# Altium footprint library Connectors.PcbLib: 73 footprints (part 5 of 5)
Each footprint in its own frame and in the unit in brackets; x right, y up, seen from the top. Pads: shape width x height; smd on the part's side, far side on the other; paste and mask are expansions set on the pad; w line width, h text height; cw(c..) or ccw(c..) is an arc to the next point about the centre after c.
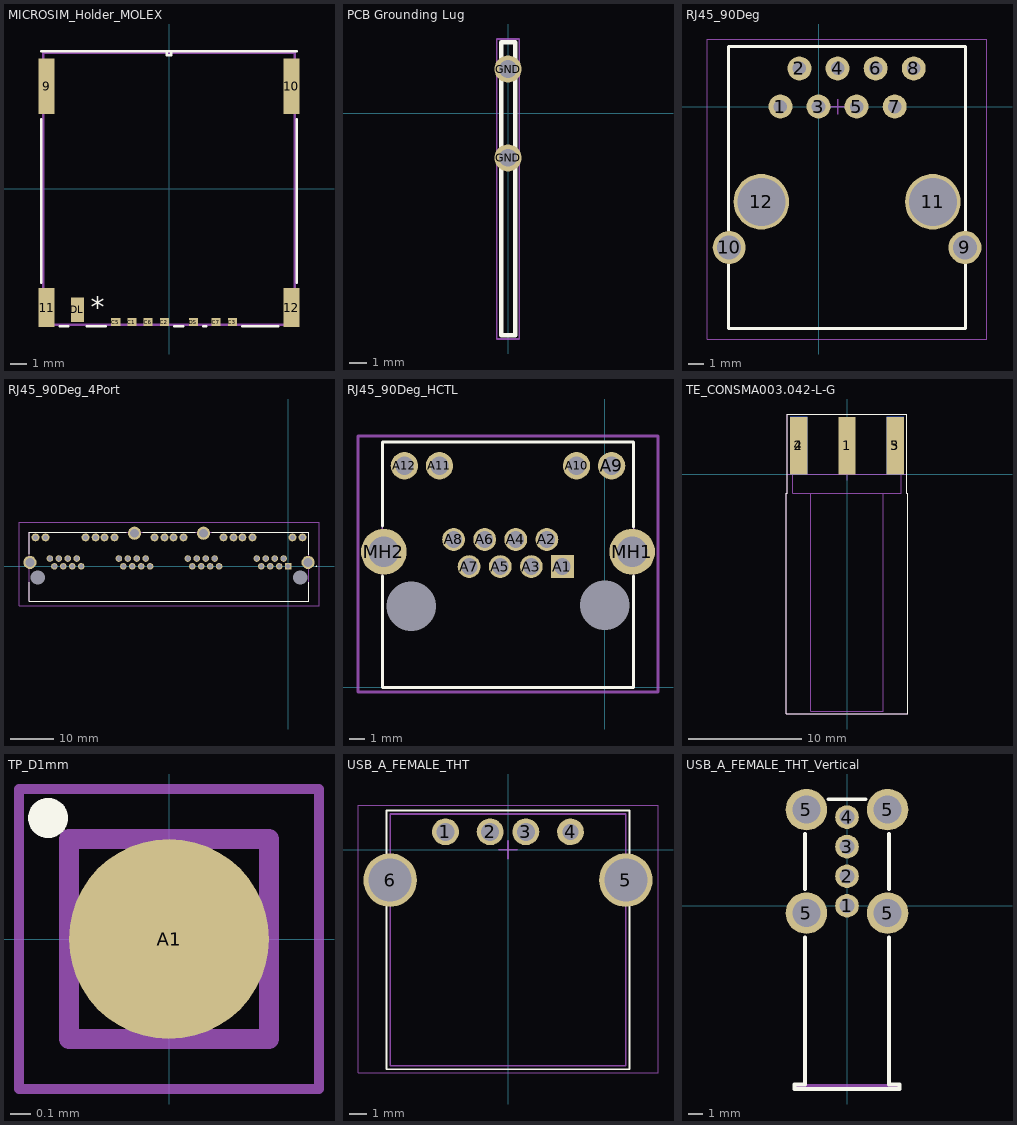
[diagram p4: the footprints below, top view; thin cyan lines are the x and y axes]

## MICROSIM_Holder_MOLEX [mil]
pads (12):
  rect 39x134 smd: 9(-297.24,248.79) 10(297.24,248.79)
  rect 39x94 smd: 11(-297.24,-288.61) 12(297.24,-288.61)
  rect 22x20 smd: C1(-89.96,-324.04) C2(-11.22,-324.04) C3(153.74,-324.04) C5(-129.33,-324.04) C6(-50.59,-324.04) C7(114.37,-324.04) DS(59.06,-324.04)
  rect 32x59 smd: DL(-222.44,-293.73)
Top Overlay:
  lines w6: -310,-229 -310,169 ; -310,334 -5,334 ; -265,-334 -245,-334 ; -200,-334 -153,-334 ; 13,-334 35,-334 ; 83,-334 90,-334 ; 178,-334 265,-334 ; 310,-229 310,169 ; 310,334 5,334 ; -5,334 5,334 ; -5,334 -5,324 5,324 5,334
  text "*" at -190,-312.5 h50
Mechanical 13:
  lines w6: -305,-330 305,-330 305,330 -305,330 -305,-330
  text "*" at -190,-312.5 h50
3D body: height 39.37, standoff 0, extent -300,-325 300,325

## PCB Grounding Lug [mm]
pads (2):
  round 1.524 hole 1: GND(0,-2.5) GND(0,2.5)
Top Overlay:
  lines w0.254: -0.381,-12.5 0.419,-12.5 0.419,4 -0.381,4 -0.381,-12.5
Mechanical 15:
  lines w0.1: -0.635,-12.7 0.635,-12.7 0.635,3.937 0.635,4.191 0.381,4.191 -0.635,4.191 -0.635,-12.7
3D body: height 3.5, standoff 0, extent -0.254,-2.754 0.254,-2.246
3D body: height 3.5, standoff 0, extent -0.254,2.246 0.254,2.754
3D body: height 9, standoff 2.7, extent -0.381,-12.446 0.381,-3.683
3D body: height 9, standoff 0, extent -0.381,-3.683 0.381,3.937

## RJ45_90Deg [mm]
pads (12):
  round 1.6 hole 0.9: 1(-2.54,0) 2(-1.27,2.54) 3(0,0) 4(1.27,2.54) 5(2.54,0) 6(3.81,2.54) 7(5.08,0) 8(6.35,2.54)
  round 2.2 hole 1.6: 9(9.76,-9.4) 10(-5.95,-9.4)
  round 3.7 hole 3.2: 11(7.62,-6.35) 12(-3.81,-6.35)
Top Overlay:
  lines w0.2: -6,-14.8 -6,4 9.8,4 9.8,-14.8 -6,-14.8
Mechanical 13:
  lines w0.1: -6,-14.8 -6,4 9.8,4 9.8,-14.8 -6,-14.8
Mechanical 15:
  lines w0.05: -7.4,-15.5 -7.4,4.5 11.2,4.5 11.2,-15.5 -7.4,-15.5
  lines w0.1: 0.77,0 1.77,0 ; 1.27,-0.5 1.27,0.5
3D body: height 13.3, standoff 0.3, extent -6,-14.8 9.8,4

## RJ45_90Deg_4Port [mm]
pads (54):
  rect 1.5x1.5 hole 1.1: A1(0,0)
  round 1.5 hole 1.1: A2(-1.02,1.78) A3(-2.04,0) A4(-3.06,1.78) A5(-4.08,0) A6(-5.1,1.78) A7(-6.12,0) A8(-7.14,1.78) B1(-15.75,0) B2(-16.77,1.78) B3(-17.79,0) B4(-18.81,1.78) B5(-19.83,0) B6(-20.85,1.78) B7(-21.87,0) B8(-22.89,1.78) C1(-31.5,0) C2(-32.52,1.78) C3(-33.54,0) C4(-34.56,1.78) C5(-35.58,0) C6(-36.6,1.78) C7(-37.62,0) C8(-38.64,1.78) D1(-47.25,0) D2(-48.27,1.78) D3(-49.29,0) D4(-50.31,1.78) D5(-51.33,0) D6(-52.35,1.78) D7(-53.37,0) D8(-54.39,1.78)
  round 1.8 hole 1.2: A9(3.29,6.6) A10(1,6.6) A11(-8.14,6.6) A12(-10.43,6.6) B9(-12.46,6.6) B10(-14.75,6.6) B11(-23.89,6.6) B12(-26.18,6.6) C9(-28.21,6.6) C10(-30.5,6.6) C11(-39.64,6.6) C12(-41.93,6.6) D9(-43.96,6.6) D10(-46.25,6.6) D11(-55.39,6.6) D12(-57.68,6.6)
  round 3 hole 2: MH1(4.555,0.89) MH2(-58.945,0.89) MH3(-19.32,7.56) MH4(-35.07,7.56)
  round 1.625 hole 3.25 unplated: ""(-57.17,-2.54) ""(2.78,-2.54)
Top Overlay:
  lines w0.1: 6.4,0 cw(c6.45,0) 6.5,0 cw(c6.45,0) 6.4,0
  lines w0.2: -59.07,-3.6 -59.07,-8 4.68,-8 4.68,-3.6 ; -59.07,2.8 -59.07,7.75 -37,7.75 ; -33.2,7.75 -21.2,7.75 ; -17.4,7.75 4.68,7.75 4.68,2.6
Mechanical 13:
  lines w0.1: -59.07,-8 -59.07,7.75 4.68,7.75 4.68,-8 -59.07,-8
Mechanical 15:
  lines w0.1: -61.445,-9 -61.445,10.06 7.055,10.06 7.055,-9 -61.445,-9
3D body "HC-RJ45-5JA-4-2.stp": height 13.55, standoff -5, extent -59.838,-8 5.455,8.458

## RJ45_90Deg_HCTL [mm]
pads (16):
  rect 1.5x1.5 hole 1.1: A1(-2.78,7.93)
  round 1.5 hole 1.1: A2(-3.8,9.71) A3(-4.82,7.93) A4(-5.84,9.71) A5(-6.86,7.93) A6(-7.88,9.71) A7(-8.9,7.93) A8(-9.92,9.71)
  round 1.8 hole 1.2: A9(0.45,14.55) A10(-1.85,14.55) A11(-10.85,14.55) A12(-13.15,14.55)
  round 3 hole 2: MH1(1.8,8.9) MH2(-14.5,8.9)
  round 1.625 hole 3.25 unplated: ""(-12.7,5.34) ""(0,5.4)
Top Overlay:
  lines w0.2: -14.6,7.3 -14.6,0 1.9,0 1.9,7.3 ; -14.6,10.6 -14.6,16.1 1.9,16.1 1.9,10.54
Mechanical 13:
  lines w0.1: -14.6,0 1.9,0 1.9,16.1 -14.6,16.1 -14.6,0
Mechanical 15:
  lines w0.2: -16.2,-0.3 -16.2,16.5 3.5,16.5 3.5,-0.3 -16.2,-0.3
3D body: height 13.5, standoff 0.01, extent -14.7,0 1.9,16.1

## TE_CONSMA003.042-L-G [mm]
pads (5):
  rect 1.52x5.08 smd: 1(0,2.54) 2(-4.24,2.54) 3(4.24,2.54)
  rect 1.52x5.08 smd far side: 4(-4.24,2.54) 5(4.24,2.54)
Top Overlay:
  lines w0.05: -5.35,-21.1 5.35,-21.1 5.35,-1.63 5.25,-1.63 5.25,5.33 -5.25,5.33 -5.25,-1.63 -5.35,-1.63 -5.35,-21.1
Bottom Overlay:
  lines w0.05: -5.35,-21.1 -5.35,-1.63 -5.25,-1.63 -5.25,5.33 5.25,5.33 5.25,-1.63 5.35,-1.63 5.35,-21.1 -5.35,-21.1
Top Assembly:
  lines w0.1: -5.25,0 -4.76,0 ; 5.25,0 4.76,0 ; -4.76,0 -4.76,-1.63 -3.175,-1.63 ; -4.76,0 4.76,0 ; -3.175,-1.63 3.175,-1.63 ; -3.175,-1.63 -3.175,-20.85 3.175,-20.85 3.175,-1.63 ; 3.175,-1.63 4.76,-1.63 4.76,0
Bottom Assembly:
  lines w0.1: -3.175,-1.63 3.175,-1.63 ; -3.175,-1.63 -4.76,-1.63 -4.76,0 4.76,0 4.76,-1.63 3.175,-1.63 ; -3.175,-1.63 -3.175,-20.85 3.175,-20.85 3.175,-1.63
Bottom Courtyard:
  lines w0.05: -5.35,-21.1 5.35,-21.1 5.35,-1.63 5.25,-1.63 5.25,5.33 -5.25,5.33 -5.25,-1.63 -5.35,-1.63 -5.35,-21.1
Top Component Center:
  lines w0.1: -0.5,0 0.5,0 ; 0,-0.5 0,0.5
3D body "step_temp.STEP": height 5.5, standoff -4.7, extent -5.1,-20.85 5.1,4.74

## TP_D1mm [mm]
pads (1):
  round 1 smd: A1(0,0)
Top Overlay:
  circle w0.1: c-0.605,0.605 r0.05
Mechanical 13:
  lines w0.1: -0.5,-0.5 0.5,-0.5 0.5,0.5 -0.5,0.5 -0.5,-0.5
Mechanical 15:
  lines w0.05: -0.75,-0.75 0.75,-0.75 0.75,0.75 -0.75,0.75 -0.75,-0.75
  lines w0.1: -0.5,0 0.5,0 ; 0,-0.5 0,0.5
3D body: height 0.1, standoff 0, extent -0.5,-0.5 0.5,0.5

## USB_A_FEMALE_THT [mm]
height 1.4
pads (6):
  round 1.5 hole 1: 1(-3.5,1) 2(-1,1) 3(1,1)
  round 1.5 hole 0.9: 4(3.5,1)
  round 3 hole 2.4: 5(6.6,-1.7) 6(-6.6,-1.7)
Top Overlay:
  lines w0.1: -6.8,-12.3 -6.8,2.2 6.8,2.2 6.8,-12.3 -6.8,-12.3
Mechanical 13:
  lines w0.1: -6.6,-12.1 -6.6,2 6.6,2 6.6,-12.1 -6.6,-12.1
Mechanical 15:
  lines w0.05: -8.4,-12.5 -8.4,2.5 8.4,2.5 8.4,-12.5 -8.4,-12.5
  lines w0.1: -0.5,0 0.5,0 ; 0,-0.5 0,0.5
3D body "USB-A-S-S-B-TH.stp": height 7.34, standoff -3.79, extent -7.872,-12.1 7.872,2

## USB_A_FEMALE_THT_Vertical [mm]
height 1.4
pads (8):
  round 1.6 hole 1 paste-2539.97 mask+0.051: 1(0,0) 2(0,2) 3(0,4) 4(0,6)
  round 2.8 hole 1.9 paste-2539.97 mask+0.051: 5(-2.75,-0.5) 5(-2.75,6.5) 5(2.75,-0.5) 5(2.75,6.5)
Top Overlay:
  lines w0.254: -2.85,-2.128 -2.85,-12.1 -3.55,-12.1 -3.55,-12.4 3.55,-12.4 3.55,-12.1 2.85,-12.1 2.85,-2.128 ; -2.85,1.128 -2.85,4.872 ; -1.277,7.2 1.277,7.2 ; 2.85,1.128 2.85,4.872
Mechanical 15:
  region: -3.55,-12.09 -3.55,-12.39 3.55,-12.39 3.55,-12.09
  region: 2.73,-2.13 2.97,-2.13 2.97,-12.08 2.73,-12.08
  region: -2.97,-2.13 -2.73,-2.13 -2.73,-12.08 -2.97,-12.08
3D body "USB-A 111 (vertical on plate).STEP": height 15.15, standoff -3.25, extent -3.556,-12.19 3.544,7.11